# Altium schematic symbol library KLS5_CR2032.SchLib: 1 symbol
Pins are listed as number, name and electrical type; pins without a type are passive.

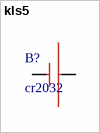
[diagram p0: symbol kls5]

## kls5
designator B?, comment cr2032
footprint KLS5_CR2032
pins: 1, 2